# Altium schematic symbol library Supressor.SchLib: 1 symbol
Pins are listed as number, name and electrical type; pins without a type are passive.

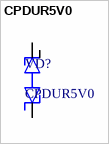
[diagram p0: symbol CPDUR5V0]

## CPDUR5V0
designator VD?
Part number: CPDUR5V0-HF; Manufacturer: *
footprint L0603
pins: 1, 2